# EAGLE library part PINHD-1X6 (library pie)
6-pin 0.1-inch header
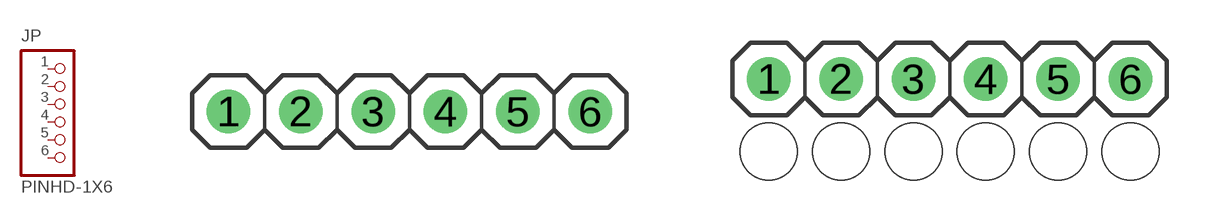
[diagram p12: symbol with the pads of 1X06; footprints 1X06, 1X06-STRAINRELIEF]

Designator prefix JP

## PINHD-1X6 (PARTNUMBER: 965)  [1X06]
1  1  pas
2  2  pas
3  3  pas
4  4  pas
5  5  pas
6  6  pas

## PINHD-1X6STRAIN-RELIEF  [1X06-STRAINRELIEF]
Pads as for 1X06

## PINHD-1X6SMD-C (DIGIKEY-PN: S1013E-36-ND)  [1X06-SMD-C]
P$1  1  pas
P$2  2  pas
P$3  3  pas
P$4  4  pas
P$5  5  pas
P$6  6  pas

## Footprint 1X06 (pad centres in mm)
6-pin 0.1-inch header
drill 1.016 pad 1.524: 1 -6.35,0; 2 -3.81,0; 3 -1.27,0; 4 1.27,0; 5 3.81,0; 6 6.35,0

## Footprint 1X06-STRAINRELIEF (pad centres in mm)
6-pin 0.1-inch header
drill 1.016 pad 1.524: 1 -6.35,0; 2 -3.81,0; 3 -1.27,0; 4 1.27,0; 5 3.81,0; 6 6.35,0
hole 2 at -6.35,-2.54
hole 2 at -3.81,-2.54
hole 2 at -1.27,-2.54
hole 2 at 1.27,-2.54
hole 2 at 3.81,-2.54
hole 2 at 6.35,-2.54

## Footprint 1X06-SMD-C (pad centres in mm)
Package for 6pin SMD Header in the "C" orientation. Reference drawing: http://www.sullinscorp.com/images/C10058.pdf
smd 1.27 x 6.35: P$1 -6.35,2.54; P$2 -3.81,-2.54; P$3 -1.27,2.54; P$4 1.27,-2.54; P$5 3.81,2.54; P$6 6.35,-2.54